# Altium schematic symbol library connectors.SchLib: 36 symbols
Pins are listed as number, name and electrical type; pins without a type are passive.

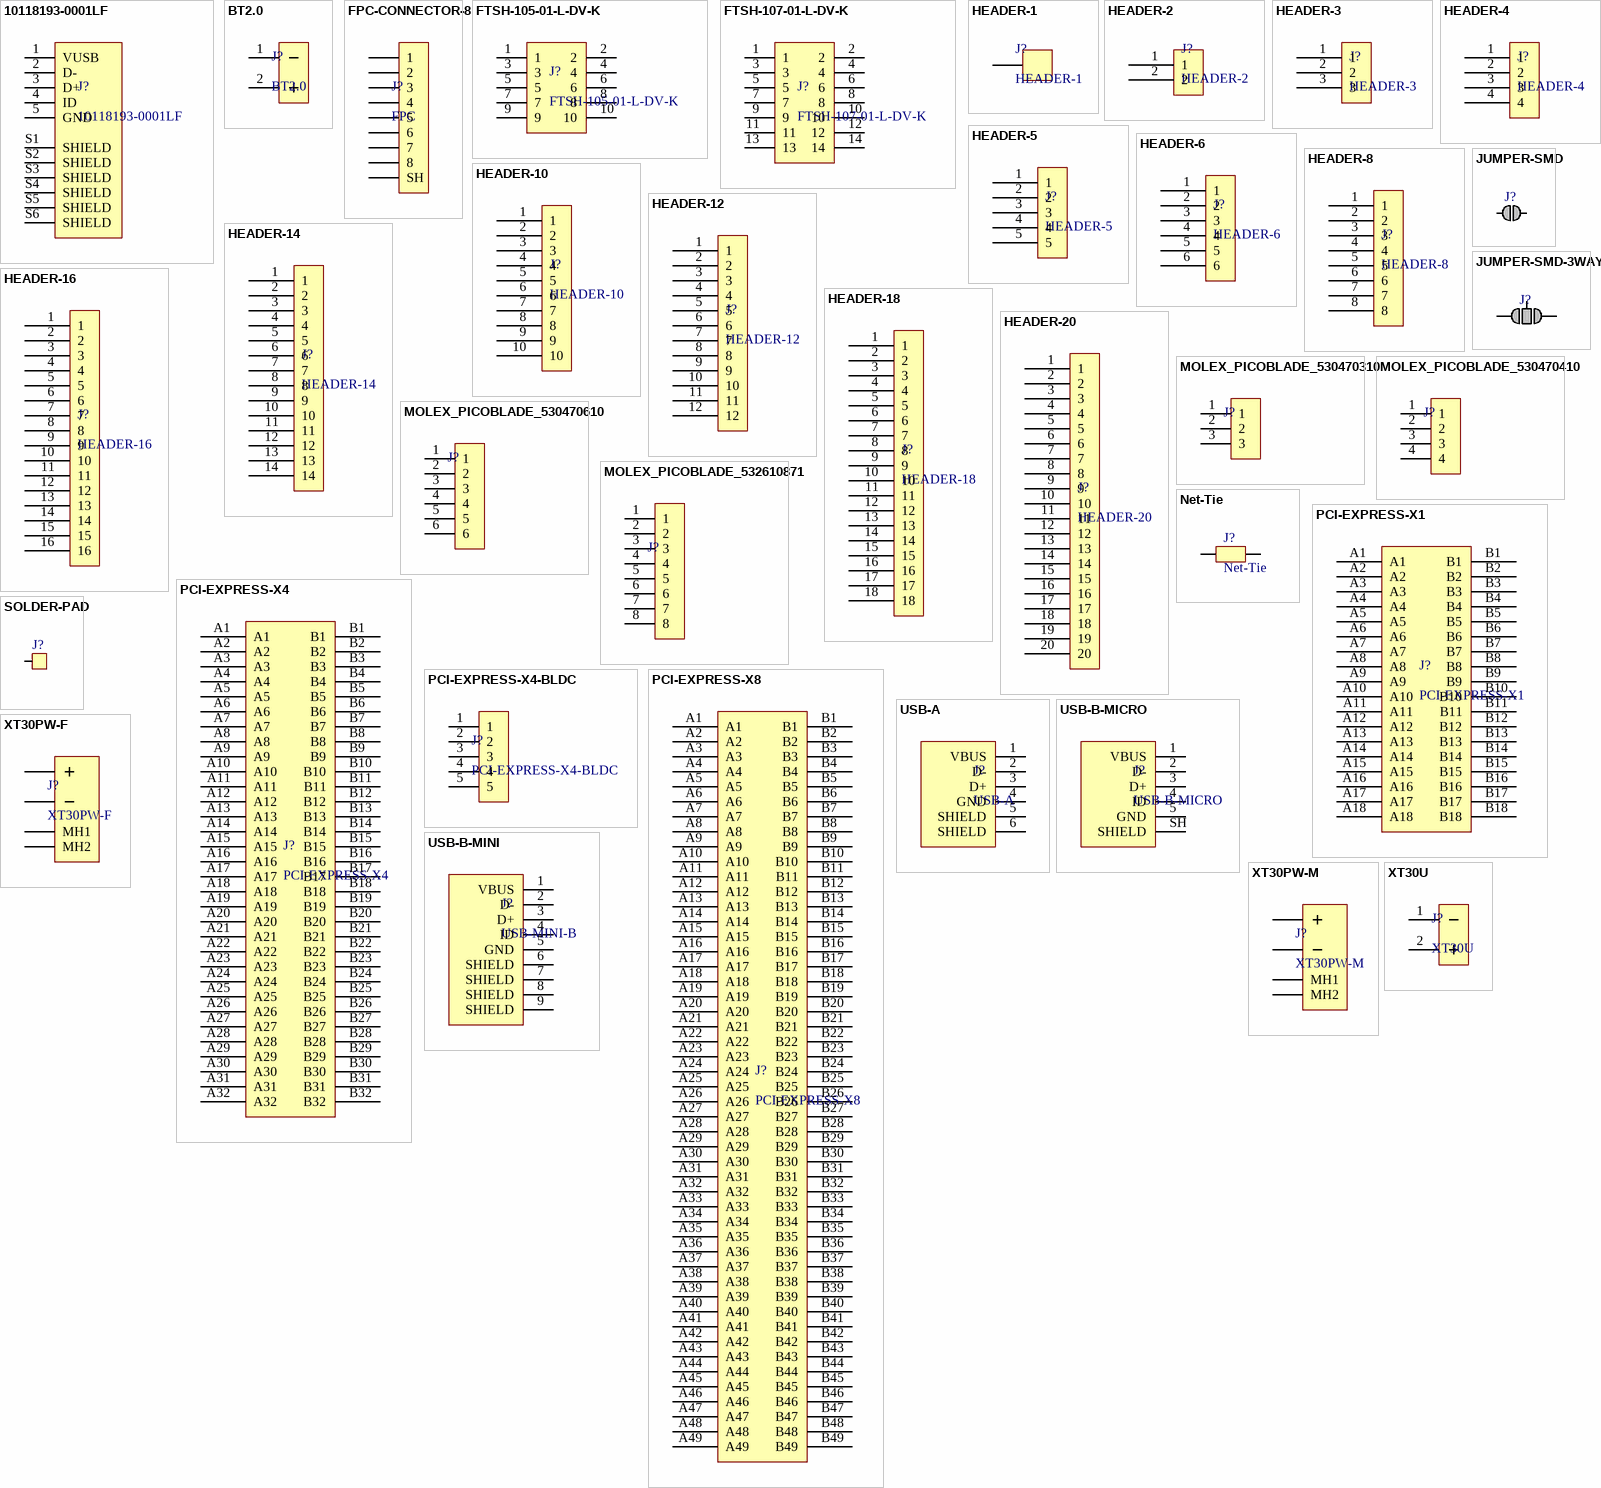
[diagram p0: symbols 10118193-0001LF to XT30U]

## 10118193-0001LF
designator J?
USB - micro B USB 2.0 Receptacle Connector 5 Position Surface Mount, Right Angle; Through Hole; MF: Amphenol ICC; Availability: Unavailable; SnapEDA_Link: https://www.snapeda.com/parts/10118193-0001LF/Amphenol%20FCI/view-part/2758989/?ref=snap; MP: 10118193-0001LF; Price: None; Value: *; Package: None
footprint FCI_10118193-0001LF
pins: 1 VUSB, 2 D-, 3 D+, 4 ID, 5 GND, S1 SHIELD, S2 SHIELD, S3 SHIELD, S4 SHIELD, S5 SHIELD, S6 SHIELD

## BT2.0
designator J?
footprint BT2.0-M
pins: 1 -, 2 +

## FPC-CONNECTOR-8
designator J?, comment FPC
footprint HIROSE-FH19C-8S-0.5SH
pins: 1, 2, 3, 4, 5, 6, 7, 8, SH

## FTSH-105-01-L-DV-K
designator J?
footprint FTSH-105-01-L-DV-K
pins: 1, 2, 3, 4, 5, 6, 7, 8, 9, 10

## FTSH-107-01-L-DV-K
designator J?
footprint FTSH-107-01-L-DV-K
pins: 1, 2, 3, 4, 5, 6, 7, 8, 9, 10, 11, 12, 13, 14

## HEADER-1
designator J?
footprint HIGH-POWER-VIA
footprint POWER-VIA
footprint POWER-PAD
footprint POWER-PAD-4x3
footprint 2MM-BULLET-VIA
footprint MEDIUM-POWER-VIA
footprint 2MM-BANANA-VIA
footprint 2MM-BULLET-PLUG-VIA
footprint 2MM-BANANA-SOCKET
footprint 2MM-BANANA-VIA-BOTTOM-PAD
footprint 3.5MM-COMPACT-BULLET-PLUG-VIA
footprint 3.5MM-COMPACT-BULLET-VIA
footprint PAD-1020
pins: 1

## HEADER-2
designator J?
footprint PIN-HEADER-2
footprint PADS-2-1020
pins: 1, 2

## HEADER-3
designator J?
footprint PIN-HEADER-3
footprint PADS-3-1020
pins: 1, 2, 3

## HEADER-4
designator J?
footprint PIN-HEADER-4
footprint PADS-4-1020
pins: 1, 2, 3, 4

## HEADER-5
designator J?
footprint PIN-HEADER-5
footprint JST-XH-5-TH
footprint S5B-XH-A-1
footprint PIN-HEADER-5-RA
footprint JST-XH-5-TH-PCB-CUTOUT
pins: 1, 2, 3, 4, 5

## HEADER-6
designator J?
pins: 1, 2, 3, 4, 5, 6

## HEADER-8
designator J?
pins: 1, 2, 3, 4, 5, 6, 7, 8

## HEADER-10
designator J?
footprint PIN-HEADER-10
pins: 1, 2, 3, 4, 5, 6, 7, 8, 9, 10

## HEADER-12
designator J?
pins: 1, 2, 3, 4, 5, 6, 7, 8, 9, 10, 11, 12

## HEADER-14
designator J?
pins: 1, 2, 3, 4, 5, 6, 7, 8, 9, 10, 11, 12, 13, 14

## HEADER-16
designator J?
pins: 1, 2, 3, 4, 5, 6, 7, 8, 9, 10, 11, 12, 13, 14, 15, 16

## HEADER-18
designator J?
pins: 1, 2, 3, 4, 5, 6, 7, 8, 9, 10, 11, 12, 13, 14, 15, 16, 17, 18

## HEADER-20
designator J?
pins: 1, 2, 3, 4, 5, 6, 7, 8, 9, 10, 11, 12, 13, 14, 15, 16, 17, 18, 19, 20

## JUMPER-SMD
designator J?, comment JUMPER  (value not drawn)
footprint JUMPER-SMD-1010
pins: 1, 2

## JUMPER-SMD-3WAY
designator J?, comment JUMPER  (value not drawn)
footprint JUMPER-SMD-3WAY-0303
footprint JUMPER-SMD-3WAY-1005
pins: 1, 2, 3

## MOLEX_PICOBLADE_530470310
designator J?  (value not drawn)
footprint MOLEX_PICOBLADE_530470310
pins: 1, 2, 3

## MOLEX_PICOBLADE_530470410
designator J?  (value not drawn)
footprint MOLEX_PICOBLADE_530470410
pins: 1, 2, 3, 4

## MOLEX_PICOBLADE_530470610
designator J?  (value not drawn)
footprint MOLEX_PICOBLADE_530470610
pins: 1, 2, 3, 4, 5, 6

## MOLEX_PICOBLADE_532610871
designator J?  (value not drawn)
footprint MOLEX_PICOBLADE_532610871
pins: 1, 2, 3, 4, 5, 6, 7, 8

## Net-Tie
designator J?  (net tie, no BOM)
footprint NET-TIE-0803
footprint NET-TIE-0602
pins: 1, 2

## PCI-EXPRESS-X1
designator J?
footprint PCI-EXPRESS-X1-CARD-EDGE
footprint PCI-EXPRESS-X1-SOCKET
pins: A1, A2, A3, A4, A5, A6, A7, A8, A9, A10, A11, A12, A13, A14, A15, A16, A17, A18, B1, B2, B3, B4, B5, B6, B7, B8, B9, B10, B11, B12, B13, B14, B15, B16, B17, B18

## PCI-EXPRESS-X4
designator J?
footprint PCI-EXPRESS-X4-CARD-EDGE
footprint PCI-EXPRESS-X4-SOCKET
pins: A1, A2, A3, A4, A5, A6, A7, A8, A9, A10, A11, A12, A13, A14, A15, A16, A17, A18, A19, A20, A21, A22, A23, A24, A25, A26, A27, A28, A29, A30, A31, A32, B1, B2, B3, B4, B5, B6, B7, B8, B9, B10, B11, B12, B13, B14, B15, B16, B17, B18, B19, B20, B21, B22, B23, B24, B25, B26, B27, B28, B29, B30, B31, B32

## PCI-EXPRESS-X4-BLDC
designator J?
footprint PCI-EXPRESS-X4-CARD-EDGE-BLDC
pins: 1, 2, 3, 4, 5

## PCI-EXPRESS-X8
designator J?
footprint PCI-EXPRESS-X8-CARD-EDGE
pins: A1, A2, A3, A4, A5, A6, A7, A8, A9, A10, A11, A12, A13, A14, A15, A16, A17, A18, A19, A20, A21, A22, A23, A24, A25, A26, A27, A28, A29, A30, A31, A32, A33, A34, A35, A36, A37, A38, A39, A40, A41, A42, A43, A44, A45, A46, A47, A48, A49, B1, B2, B3, B4, B5, B6, B7, B8, B9, B10, B11, B12, B13, B14, B15, B16, B17, B18, B19, B20, B21, B22, B23, B24, B25, B26, B27, B28, B29, B30, B31, B32, B33, B34, B35, B36, B37, B38, B39, B40, B41, B42, B43, B44, B45, B46, B47, B48, B49

## SOLDER-PAD
designator J?
footprint PAD-1020
footprint PAD-2020
footprint PAD-3020
footprint PAD-4020
footprint PAD-0610
pins: 1

## USB-A
designator J?
footprint USB-A-PLUG
pins: 1 VBUS, 2 D-, 3 D+, 4 GND, 5 SHIELD, 6 SHIELD

## USB-B-MICRO
designator J?
footprint USB-B-MICRO-FCI-10104110
pins: 1 VBUS, 2 D-, 3 D+, 4 ID, 5 GND, SH SHIELD

## USB-B-MINI
designator J?, comment USB-MINI-B
footprint USB-B-MINI
pins: 1 VBUS, 2 D-, 3 D+, 4 ID, 5 GND, 6 SHIELD, 7 SHIELD, 8 SHIELD, 9 SHIELD

## XT30PW-F
designator J?
footprint XT30PW-F
pins: +, -, MH1, MH2

## XT30PW-M
designator J?
footprint XT30PW-M
pins: +, -, MH1, MH2

## XT30U
designator J?
footprint XT30U-PCB-RA-CUTOUT
footprint XT30U-PCB-LA-CUTOUT
footprint XT30-M-THT
pins: 1 -, 2 +